# Altium schematic symbol library 管子.SchLib: 14 symbols
Pins are listed as number, name and electrical type; pins without a type are passive.

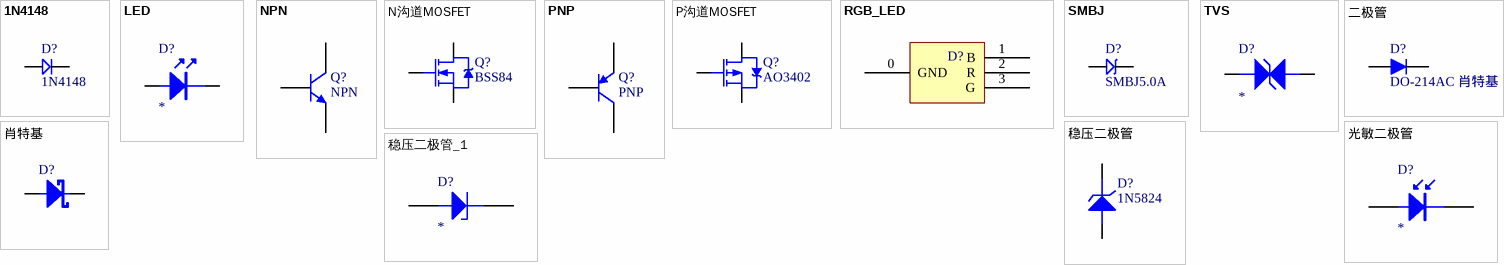
[diagram p0: symbols 1N4148 to 肖特基]

## 1N4148
designator D?
开关二极管
footprint SOD-123
footprint DIODE_SOP (4148)
footprint DIODE-L (6A10)
footprint DIODE-M (1N5822)
footprint DIODE_S (1N4007)
footprint DIODE_3*5.3 (ME:SS14/SS24;L:5.3mm;W:3mm;)
footprint DIODE_4*5.6 (ME:RS2J.L:5.6mm;W:4mm)
footprint DIODE_6.2*8.13 (ME:RS2J.L:8.13mm;W:6.2mm)
footprint DO-35
pins: 1, 2

## LED
designator D?
LED
footprint LED 0603B (蓝色0603LED)
footprint LED 0603G (绿色0603LED)
footprint LED 0603R (红色0603LED)
footprint LED 0603W (白色0603LED)
footprint LED 0603Y (黄色0603LED)
footprint LED0805
footprint LED0805红色
footprint LED0805绿色
footprint LED0805黄色
pins: A 1, K 2

## NPN
designator Q?
NPN Bipolar Transistor; Published: 8-Jun-2000; LatestRevisionDate: 17-Jul-2002; LatestRevisionNote: Re-released for DXP Platform.; PackageReference: TO-226-AA; Publisher: Altium Limited; PackageDescription: TO, Flat Index; 3 In-Line, Axial Leads; Body Dia. 4.8mm; Leads 0.55 x 0.51 mm (max); Code_JEDEC: TO-226-AA
footprint SOT-23 (SOT-23-3)
simulation model NPN
signal-integrity model NPN
pins: 1 B, 2 E, 3 C

## N沟道MOSFET
designator Q?, comment BSS84
CQ-BS170
footprint SOT-23 (SOT-23-3)
pins: 1 G, 2 S, 3 D

## PNP
designator Q?
PNP Bipolar Transistor; Published: 8-Jun-2000; LatestRevisionDate: 29-May-2009; LatestRevisionNote: IPC-7351 Footprint Added.; PackageVersion: Aug-1999; PackageReference: SOT-23B; Publisher: Altium Limited; PackageDescription: 3-Pin SOT-23 Package 0.95 mm Pitch, 2.4 mm Lead Span
footprint SOT-23 (SOT-23-3)
simulation model PNP
signal-integrity model PNP
pins: 1 B, 2 E, 3 C

## P沟道MOSFET
designator Q?, comment AO3402
CQ-IRF7416
footprint SOT-23 (SOT-23-3)
pins: 1 G, 2 S, 3 D

## RGB_LED
designator D?
footprint IDE4_2.54
footprint LED-SMD-1.6X1.5X0.6-YX3(4P)
pins: 0 GND, 1 B, 2 R, 3 G

## SMBJ
designator D?, comment SMBJ5.0A
TVS
footprint SMBJ
pins: 1, 2

## TVS
designator D?
TVS
footprint SMB
footprint SMB-B
pins: A 1, K 2

## 二极管
designator D?, comment DO-214AC 肖特基
footprint DO-214AA（SMB）
footprint DO-214AB（SMC）
footprint DO-214AC（SMA）
footprint DO-35
footprint SOD-123 (2.7x1.6X1.1mm（长宽高，不包括引脚）)
footprint SOD-523 (1.2x0.8X0.6mm（长宽高，不包括引脚）)
pins: 1 A, 2 K

## 光敏二极管
designator D?
Photosensitive Diode
pins: 1 A, 2 K

## 稳压二极管
designator D?, comment 1N5824
footprint DO-35
footprint 大
pins: 1 A, 2 K

## 稳压二极管_1
designator D?
Zener Diode
footprint DO-35
pins: 1 A, 2 K

## 肖特基
designator D?
Schottky Diode
footprint DO-35
footprint SMA (DO-214AC)
footprint DO-214AC（SMA）
pins: 1 A, 2 K